# EAGLE library part DM3AT (library joule_shield)
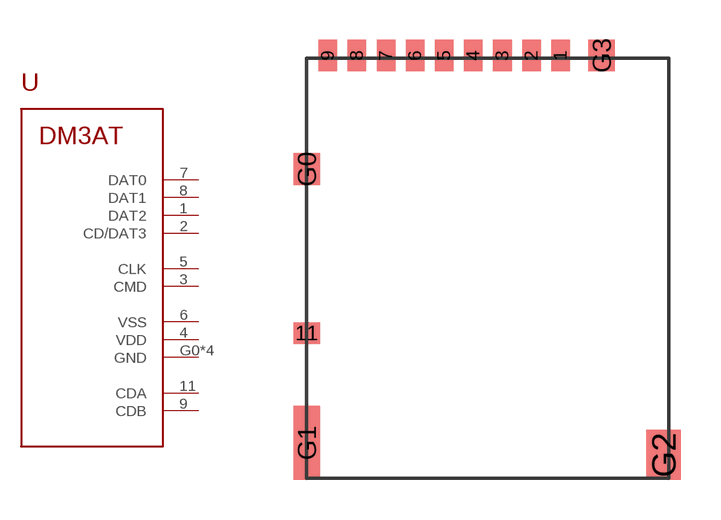
[diagram p7: symbol with the pads of DM3AT; footprint DM3AT]

Designator prefix -

## DM3ATDM3AT  [DM3AT]
1  DAT2
2  CD/DAT3
3  CMD
4  VDD
5  CLK
6  VSS
7  DAT0
8  DAT1
9  CDB
11  CDA
G0  GND
G1  GND
G2  GND
G3  GND

## Footprint DM3AT (pad centres in mm)
smd 0.7 x 1.2: 1 3.3,0; 2 2.2,0; 3 1.1,0; 4 0,0; 5 -1.1,0; 6 -2.2,0; 7 -3.3,0; 8 -4.4,0; 9 -5.5,0
smd 1 x 0.8: 11 -6.3,-10.5
smd 1 x 1.2: G0 -6.3,-4.3; G3 4.85,0
smd 1 x 2.8: G1 -6.3,-14.65
smd 1.3 x 1.9: G2 7.2,-15.1